# Altium schematic symbol library led.SchLib: 1 symbol
Pins are listed as number, name and electrical type; pins without a type are passive.

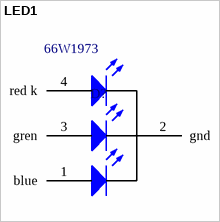
[diagram p0: symbol LED1]

## LED1
designator D?  Supplier Part Number 2: 66W1973
Typical RED GaAs LED; Published: 8-Jun-2000; LatestRevisionDate: 08-Jul-2005; LatestRevisionNote: Mech Layer 1 removed.; PackageReference: LED-1; Publisher: Altium Limited; PackageDescription: LED; 2 Leads; Supplier 1: Newark; Supplier 2: Newark
simulation model Led rgb (Model Description)
footprint PCBComponent_1
pins: 1 blue, 2 gnd, 3 gren, 4 red k